# Altium schematic symbol library Cap 100uf 6.SCHLIB: 3 symbols
Pins are listed as number, name and electrical type; pins without a type are passive.

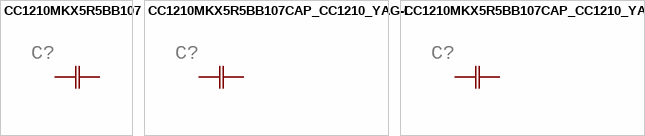
[diagram p0: symbols CC1210MKX5R5BB107 to CC1210MKX5R5BB107CAP_CC1210_YAG-M]

## CC1210MKX5R5BB107
designator C?
GateName_1: A; SymbolName_1: CAPH; DeviceSetName: CC1210MKX5R5BB107; BUILT_BY: EMA_Justin; SOURCELIBRARY: Add_to_database_2021-05-13; VENDOR: Yageo; LibraryName: Cap 100uf 6.3v; Package: CAP_CC1210_YAG; COPYRIGHT: Copyright (C) 2018 Accelerated Designs. All rights reserved; DATASHEET: https://www.mouser.com/datasheet/2/447/UPY_GP_NP0_16V_to_50V_18-1730511.pdf; MANUFACTURER_PART_NUMBER: CC1210MKX5R5BB107
footprint CAP_CC1210_YAG
pins: 1, 2

## CC1210MKX5R5BB107CAP_CC1210_YAG-L
designator C?
GateName_1: A; SymbolName_1: CAPH; DeviceName: CAP_CC1210_YAG-L; DeviceSetName: CC1210MKX5R5BB107; BUILT_BY: EMA_Justin; SOURCELIBRARY: Add_to_database_2021-05-13; VENDOR: Yageo; LibraryName: Cap 100uf 6.3v; Package: CAP_CC1210_YAG-L; COPYRIGHT: Copyright (C) 2018 Accelerated Designs. All rights reserved; DATASHEET: https://www.mouser.com/datasheet/2/447/UPY_GP_NP0_16V_to_50V_18-1730511.pdf; MANUFACTURER_PART_NUMBER: CC1210MKX5R5BB107
footprint CAP_CC1210_YAG-L
pins: 1, 2

## CC1210MKX5R5BB107CAP_CC1210_YAG-M
designator C?
GateName_1: A; SymbolName_1: CAPH; DeviceName: CAP_CC1210_YAG-M; DeviceSetName: CC1210MKX5R5BB107; BUILT_BY: EMA_Justin; SOURCELIBRARY: Add_to_database_2021-05-13; VENDOR: Yageo; LibraryName: Cap 100uf 6.3v; Package: CAP_CC1210_YAG-M; COPYRIGHT: Copyright (C) 2018 Accelerated Designs. All rights reserved; DATASHEET: https://www.mouser.com/datasheet/2/447/UPY_GP_NP0_16V_to_50V_18-1730511.pdf; MANUFACTURER_PART_NUMBER: CC1210MKX5R5BB107
footprint CAP_CC1210_YAG-M
pins: 1, 2